# EAGLE library part RS6N120BHTB1 (library RS6N120BHTB1)
MOSFET Nch 80V 135A, HSOP8, Power MOSFET: RS6N120BH is a power MOSFET with low-on resistance and high power package, suitable for switching. Source: Datasheet <https://fscdn.rohm.com//en/products/databook/datasheet/discrete/transistor/mosfet/rs6n120bhtb1-e.pdf>
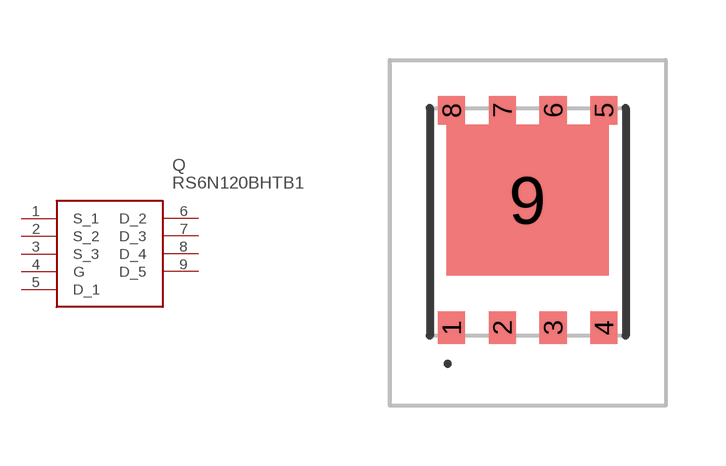
[diagram p0: symbol with the pads of RS6G120BGTB1; footprint RS6G120BGTB1]

Designator prefix Q

## RS6N120BHTB1 (Description: MOSFET Nch 80V 135A, HSOP8, Power MOSFET: RS6N120BH is a power MOSFET with low-on resistance and high power package, suitable for switching.; Height: 1.1mm; Manufacturer_Name: ROHM Semiconductor; Manufacturer_Part_Number: RS6N120BHTB1; Mouser_Part_Number: 755-RS6N120BHTB1; Mouser_Price-Stock: https://www.mouser.co.uk/ProductDetail/ROHM-Semiconductor/RS6N120BHTB1?qs=3Rah4i%252BhyCGlalqLzF6LJA%3D%3D)  [RS6G120BGTB1]
1  S_1
2  S_2
3  S_3
4  G
5  D_1
6  D_2
7  D_3
8  D_4
9  D_5

## Footprint RS6G120BGTB1 (pad centres in mm)
HSOP8 ( TB1 )
smd 0.68 x 0.81: 1 -1.905,-2.373; 2 -0.635,-2.373; 3 0.635,-2.373; 4 1.905,-2.373
smd 0.68 x 0.71: 5 1.905,3.067; 6 0.635,3.067; 7 -0.635,3.067; 8 -1.905,3.067
smd 4.06 x 3.78: 9 0,0.822